# Altium footprint library MODULE_MAX485_MODULE_5V_LOGIC_TLL_TO_RS-485_CONVERTER.PcbLib: 1 footprints
Each footprint in its own frame and in the unit in brackets; x right, y up, seen from the top. Pads: shape width x height; smd on the part's side, far side on the other; paste and mask are expansions set on the pad; w line width, h text height; cw(c..) or ccw(c..) is an arc to the next point about the centre after c.
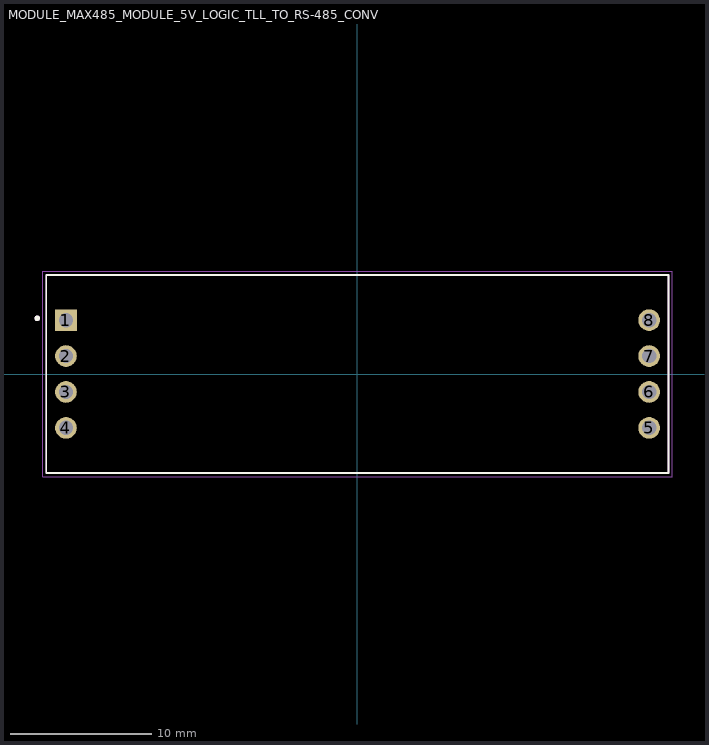
[diagram p0: the footprint, top view; thin cyan lines are the x and y axes]

## MODULE_MAX485_MODULE_5V_LOGIC_TLL_TO_RS-485_CONVERTER [mm]
pads (8):
  rect 1.53x1.53 hole 1.02: 1(-20.6,3.81)
  round 1.53 hole 1.02: 2(-20.6,1.27) 3(-20.6,-1.27) 4(-20.6,-3.81) 5(20.62,-3.81) 6(20.62,-1.27) 7(20.62,1.27) 8(20.62,3.81)
Top Overlay:
  circle w0.2: c-22.632,3.94 r0.1
  lines w0.127: -22,-7 -22,7 22,7 22,-7 -22,-7
Mechanical 13:
  circle w0.2: c-22.632,3.94 r0.1
  lines w0.127: -22,-7 -22,7 22,7 22,-7 -22,-7
Mechanical 15:
  lines w0.05: -22.25,-7.25 22.25,-7.25 22.25,7.25 -22.25,7.25 -22.25,-7.25
3D body "rs485.stp": height 13.54, standoff -6.46, extent -22,-7.015 22,6.985